# EAGLE library part ES_DAISY_SEED_REV2 (library Electrosmith-Boards)
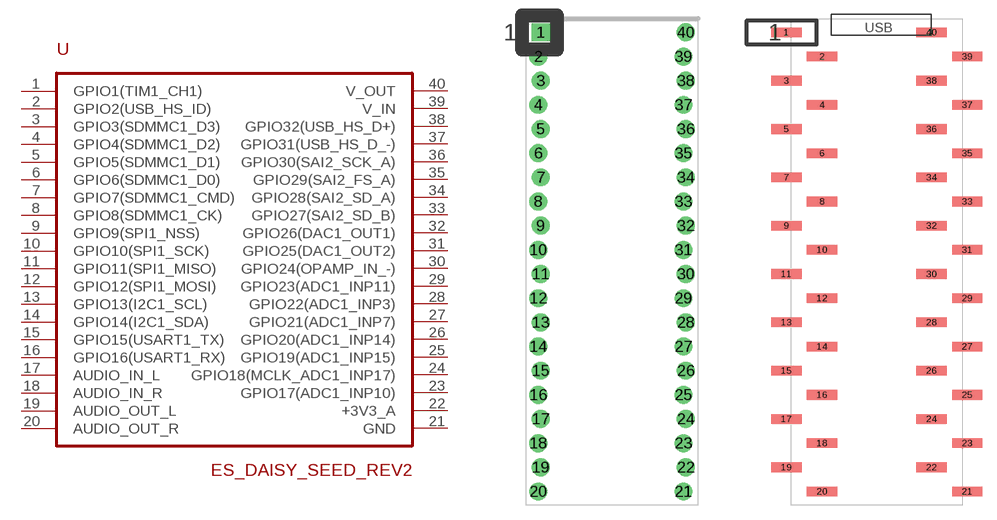
[diagram p18: symbol with the pads of ES_DAISY_SEED; footprints ES_DAISY_SEED, ES_DAISY_SEED_SMT]

Designator prefix U

## ES_DAISY_SEED_REV2  [ES_DAISY_SEED]
1  GPIO1(TIM1_CH1)
2  GPIO2(USB_HS_ID)
3  GPIO3(SDMMC1_D3)
4  GPIO4(SDMMC1_D2)
5  GPIO5(SDMMC1_D1)
6  GPIO6(SDMMC1_D0)
7  GPIO7(SDMMC1_CMD)
8  GPIO8(SDMMC1_CK)
9  GPIO9(SPI1_NSS)
10  GPIO10(SPI1_SCK)
11  GPIO11(SPI1_MISO)
12  GPIO12(SPI1_MOSI)
13  GPIO13(I2C1_SCL)
14  GPIO14(I2C1_SDA)
15  GPIO15(USART1_TX)
16  GPIO16(USART1_RX)
17  AUDIO_IN_L
18  AUDIO_IN_R
19  AUDIO_OUT_L
20  AUDIO_OUT_R
21  GND
22  +3V3_A
23  GPIO17(ADC1_INP10)
24  GPIO18(MCLK_ADC1_INP17)
25  GPIO19(ADC1_INP15)
26  GPIO20(ADC1_INP14)
27  GPIO21(ADC1_INP7)
28  GPIO22(ADC1_INP3)
29  GPIO23(ADC1_INP11)
30  GPIO24(OPAMP_IN_-)
31  GPIO25(DAC1_OUT2)
32  GPIO26(DAC1_OUT1)
33  GPIO27(SAI2_SD_B)
34  GPIO28(SAI2_SD_A)
35  GPIO29(SAI2_FS_A)
36  GPIO30(SAI2_SCK_A)
37  GPIO31(USB_HS_D_-)
38  GPIO32(USB_HS_D+)
39  V_IN
40  V_OUT

## ES_DAISY_SEED_REV2_SMT  [ES_DAISY_SEED_SMT]
Pads as for ES_DAISY_SEED

## ES_DAISY_SEED_REV2_COMBO  [ES_DAISY_SEED_COMBO]
1  GPIO1(TIM1_CH1)
2  GPIO2(USB_HS_ID)
3  GPIO3(SDMMC1_D3)
4  GPIO4(SDMMC1_D2)
5  GPIO5(SDMMC1_D1)
6  GPIO6(SDMMC1_D0)
7  GPIO7(SDMMC1_CMD)
8  GPIO8(SDMMC1_CK)
9  GPIO9(SPI1_NSS)
10  GPIO10(SPI1_SCK)
11  GPIO11(SPI1_MISO)
12  GPIO12(SPI1_MOSI)
13  GPIO13(I2C1_SCL)
14  GPIO14(I2C1_SDA)
15  GPIO15(USART1_TX)
16  GPIO16(USART1_RX)
17  AUDIO_IN_L
18  AUDIO_IN_R
19  AUDIO_OUT_L
20  AUDIO_OUT_R
21  GND
22  +3V3_A
23  GPIO17(ADC1_INP10)
24  GPIO18(MCLK_ADC1_INP17)
25  GPIO19(ADC1_INP15)
26  GPIO20(ADC1_INP14)
27  GPIO21(ADC1_INP7)
28  GPIO22(ADC1_INP3)
29  GPIO23(ADC1_INP11)
30  GPIO24(OPAMP_IN_-)
31  GPIO25(DAC1_OUT2)
32  GPIO26(DAC1_OUT1)
33  GPIO27(SAI2_SD_B)
34  GPIO28(SAI2_SD_A)
35  GPIO29(SAI2_FS_A)
36  GPIO30(SAI2_SCK_A)
37  GPIO31(USB_HS_D_-)
38  GPIO32(USB_HS_D+)
39  V_IN
40  V_OUT
41  GPIO1(TIM1_CH1)
42  GPIO2(USB_HS_ID)
43  GPIO3(SDMMC1_D3)
44  GPIO4(SDMMC1_D2)
45  GPIO5(SDMMC1_D1)
46  GPIO6(SDMMC1_D0)
47  GPIO7(SDMMC1_CMD)
48  GPIO8(SDMMC1_CK)
49  GPIO9(SPI1_NSS)
50  GPIO10(SPI1_SCK)
51  GPIO11(SPI1_MISO)
52  GPIO12(SPI1_MOSI)
53  GPIO13(I2C1_SCL)
54  GPIO14(I2C1_SDA)
55  GPIO15(USART1_TX)
56  GPIO16(USART1_RX)
57  AUDIO_IN_L
58  AUDIO_IN_R
59  AUDIO_OUT_L
60  AUDIO_OUT_R
61  GND
62  +3V3_A
63  GPIO17(ADC1_INP10)
64  GPIO18(MCLK_ADC1_INP17)
65  GPIO19(ADC1_INP15)
66  GPIO20(ADC1_INP14)
67  GPIO21(ADC1_INP7)
68  GPIO22(ADC1_INP3)
69  GPIO23(ADC1_INP11)
70  GPIO24(OPAMP_IN_-)
71  GPIO25(DAC1_OUT2)
72  GPIO26(DAC1_OUT1)
73  GPIO27(SAI2_SD_B)
74  GPIO28(SAI2_SD_A)
75  GPIO29(SAI2_FS_A)
76  GPIO30(SAI2_SCK_A)
77  GPIO31(USB_HS_D_-)
78  GPIO32(USB_HS_D+)
79  V_IN
80  V_OUT

## ES_DAISY_SEED_REV2_DOUBLE  [ES_DAISY_SEED_DOUBLE]
1  GPIO1(TIM1_CH1)
2  GPIO2(USB_HS_ID)
3  GPIO3(SDMMC1_D3)
4  GPIO4(SDMMC1_D2)
5  GPIO5(SDMMC1_D1)
6  GPIO6(SDMMC1_D0)
7  GPIO7(SDMMC1_CMD)
8  GPIO8(SDMMC1_CK)
9  GPIO9(SPI1_NSS)
10  GPIO10(SPI1_SCK)
11  GPIO11(SPI1_MISO)
12  GPIO12(SPI1_MOSI)
13  GPIO13(I2C1_SCL)
14  GPIO14(I2C1_SDA)
15  GPIO15(USART1_TX)
16  GPIO16(USART1_RX)
17  AUDIO_IN_L
18  AUDIO_IN_R
19  AUDIO_OUT_L
20  AUDIO_OUT_R
21  GND
22  +3V3_A
23  GPIO17(ADC1_INP10)
24  GPIO18(MCLK_ADC1_INP17)
25  GPIO19(ADC1_INP15)
26  GPIO20(ADC1_INP14)
27  GPIO21(ADC1_INP7)
28  GPIO22(ADC1_INP3)
29  GPIO23(ADC1_INP11)
30  GPIO24(OPAMP_IN_-)
31  GPIO25(DAC1_OUT2)
32  GPIO26(DAC1_OUT1)
33  GPIO27(SAI2_SD_B)
34  GPIO28(SAI2_SD_A)
35  GPIO29(SAI2_FS_A)
36  GPIO30(SAI2_SCK_A)
37  GPIO31(USB_HS_D_-)
38  GPIO32(USB_HS_D+)
39  V_IN
40  V_OUT
B1  GPIO1(TIM1_CH1)
B2  GPIO2(USB_HS_ID)
B3  GPIO3(SDMMC1_D3)
B4  GPIO4(SDMMC1_D2)
B5  GPIO5(SDMMC1_D1)
B6  GPIO6(SDMMC1_D0)
B7  GPIO7(SDMMC1_CMD)
B8  GPIO8(SDMMC1_CK)
B9  GPIO9(SPI1_NSS)
B10  GPIO10(SPI1_SCK)
B11  GPIO11(SPI1_MISO)
B12  GPIO12(SPI1_MOSI)
B13  GPIO13(I2C1_SCL)
B14  GPIO14(I2C1_SDA)
B15  GPIO15(USART1_TX)
B16  GPIO16(USART1_RX)
B17  AUDIO_IN_L
B18  AUDIO_IN_R
B19  AUDIO_OUT_L
B20  AUDIO_OUT_R
B21  GND
B22  +3V3_A
B23  GPIO17(ADC1_INP10)
B24  GPIO18(MCLK_ADC1_INP17)
B25  GPIO19(ADC1_INP15)
B26  GPIO20(ADC1_INP14)
B27  GPIO21(ADC1_INP7)
B28  GPIO22(ADC1_INP3)
B29  GPIO23(ADC1_INP11)
B30  GPIO24(OPAMP_IN_-)
B31  GPIO25(DAC1_OUT2)
B32  GPIO26(DAC1_OUT1)
B33  GPIO27(SAI2_SD_B)
B34  GPIO28(SAI2_SD_A)
B35  GPIO29(SAI2_FS_A)
B36  GPIO30(SAI2_SCK_A)
B37  GPIO31(USB_HS_D_-)
B38  GPIO32(USB_HS_D+)
B39  V_IN
B40  V_OUT

## Footprint ES_DAISY_SEED (pad centres in mm)
drill 1.016 pad 1.88 square: 1 -7.493,24.13
drill 1.016 pad 1.88: 2 -7.747,21.59; 3 -7.493,19.05; 4 -7.747,16.51; 5 -7.493,13.97; 6 -7.747,11.43; 7 -7.493,8.89; 8 -7.747,6.35; 9 -7.493,3.81; 10 -7.747,1.27; 11 -7.493,-1.27; 12 -7.747,-3.81; 13 -7.493,-6.35; 14 -7.747,-8.89; 15 -7.493,-11.43; 16 -7.747,-13.97; 17 -7.493,-16.51; 18 -7.747,-19.05; 19 -7.493,-21.59; 20 -7.747,-24.13; 21 7.493,-24.13; 22 7.747,-21.59; 23 7.493,-19.05; 24 7.747,-16.51; 25 7.493,-13.97; 26 7.747,-11.43; 27 7.493,-8.89; 28 7.747,-6.35; 29 7.493,-3.81; 30 7.747,-1.27; 31 7.493,1.27; 32 7.747,3.81; 33 7.493,6.35; 34 7.747,8.89; 35 7.493,11.43; 36 7.747,13.97; 37 7.493,16.51; 38 7.747,19.05; 39 7.493,21.59; 40 7.747,24.13

## Footprint ES_DAISY_SEED_SMT (pad centres in mm)
smd 3.175 x 1.016: 1 -9.493,24.13; 2 -5.747,21.59; 3 -9.493,19.05; 4 -5.747,16.51; 5 -9.493,13.97; 6 -5.747,11.43; 7 -9.493,8.89; 8 -5.747,6.35; 9 -9.493,3.81; 10 -5.747,1.27; 11 -9.493,-1.27; 12 -5.747,-3.81; 13 -9.493,-6.35; 14 -5.747,-8.89; 15 -9.493,-11.43; 16 -5.747,-13.97; 17 -9.493,-16.51; 18 -5.747,-19.05; 19 -9.493,-21.59; 20 -5.747,-24.13; 21 9.493,-24.13; 22 5.747,-21.59; 23 9.493,-19.05; 24 5.747,-16.51; 25 9.493,-13.97; 26 5.747,-11.43; 27 9.493,-8.89; 28 5.747,-6.35; 29 9.493,-3.81; 30 5.747,-1.27; 31 9.493,1.27; 32 5.747,3.81; 33 9.493,6.35; 34 5.747,8.89; 35 9.493,11.43; 36 5.747,13.97; 37 9.493,16.51; 38 5.747,19.05; 39 9.493,21.59; 40 5.747,24.13

## Footprint ES_DAISY_SEED_COMBO (pad centres in mm)
smd 3.175 x 1.016: 1 -9.493,24.13; 2 -5.747,21.59; 3 -9.493,19.05; 4 -5.747,16.51; 5 -9.493,13.97; 6 -5.747,11.43; 7 -9.493,8.89; 8 -5.747,6.35; 9 -9.493,3.81; 10 -5.747,1.27; 11 -9.493,-1.27; 12 -5.747,-3.81; 13 -9.493,-6.35; 14 -5.747,-8.89; 15 -9.493,-11.43; 16 -5.747,-13.97; 17 -9.493,-16.51; 18 -5.747,-19.05; 19 -9.493,-21.59; 20 -5.747,-24.13; 21 9.493,-24.13; 22 5.747,-21.59; 23 9.493,-19.05; 24 5.747,-16.51; 25 9.493,-13.97; 26 5.747,-11.43; 27 9.493,-8.89; 28 5.747,-6.35; 29 9.493,-3.81; 30 5.747,-1.27; 31 9.493,1.27; 32 5.747,3.81; 33 9.493,6.35; 34 5.747,8.89; 35 9.493,11.43; 36 5.747,13.97; 37 9.493,16.51; 38 5.747,19.05; 39 9.493,21.59; 40 5.747,24.13
drill 1.016 pad 1.88 square: 41 -7.493,24.13
drill 1.016 pad 1.88: 42 -7.747,21.59; 43 -7.493,19.05; 44 -7.747,16.51; 45 -7.493,13.97; 46 -7.747,11.43; 47 -7.493,8.89; 48 -7.747,6.35; 49 -7.493,3.81; 50 -7.747,1.27; 51 -7.493,-1.27; 52 -7.747,-3.81; 53 -7.493,-6.35; 54 -7.747,-8.89; 55 -7.493,-11.43; 56 -7.747,-13.97; 57 -7.493,-16.51; 58 -7.747,-19.05; 59 -7.493,-21.59; 60 -7.747,-24.13; 61 7.493,-24.13; 62 7.747,-21.59; 63 7.493,-19.05; 64 7.747,-16.51; 65 7.493,-13.97; 66 7.747,-11.43; 67 7.493,-8.89; 68 7.747,-6.35; 69 7.493,-3.81; 70 7.747,-1.27; 71 7.493,1.27; 72 7.747,3.81; 73 7.493,6.35; 74 7.747,8.89; 75 7.493,11.43; 76 7.747,13.97; 77 7.493,16.51; 78 7.747,19.05; 79 7.493,21.59; 80 7.747,24.13

## Footprint ES_DAISY_SEED_DOUBLE (pad centres in mm)
drill 1.016 pad 1.88 square: 1 -7.493,24.13; B1 -10.033,24.13
drill 1.016 pad 1.88: 2 -7.747,21.59; 3 -7.493,19.05; 4 -7.747,16.51; 5 -7.493,13.97; 6 -7.747,11.43; 7 -7.493,8.89; 8 -7.747,6.35; 9 -7.493,3.81; 10 -7.747,1.27; 11 -7.493,-1.27; 12 -7.747,-3.81; 13 -7.493,-6.35; 14 -7.747,-8.89; 15 -7.493,-11.43; 16 -7.747,-13.97; 17 -7.493,-16.51; 18 -7.747,-19.05; 19 -7.493,-21.59; 20 -7.747,-24.13; 21 7.493,-24.13; 22 7.747,-21.59; 23 7.493,-19.05; 24 7.747,-16.51; 25 7.493,-13.97; 26 7.747,-11.43; 27 7.493,-8.89; 28 7.747,-6.35; 29 7.493,-3.81; 30 7.747,-1.27; 31 7.493,1.27; 32 7.747,3.81; 33 7.493,6.35; 34 7.747,8.89; 35 7.493,11.43; 36 7.747,13.97; 37 7.493,16.51; 38 7.747,19.05; 39 7.493,21.59; 40 7.747,24.13; B2 -10.287,21.59; B3 -10.033,19.05; B4 -10.287,16.51; B5 -10.033,13.97; B6 -10.287,11.43; B7 -10.033,8.89; B8 -10.287,6.35; B9 -10.033,3.81; B10 -10.287,1.27; B11 -10.033,-1.27; B12 -10.287,-3.81; B13 -10.033,-6.35; B14 -10.287,-8.89; B15 -10.033,-11.43; B16 -10.287,-13.97; B17 -10.033,-16.51; B18 -10.287,-19.05; B19 -10.033,-21.59; B20 -10.287,-24.13; B21 10.033,-24.13; B22 10.287,-21.59; B23 10.033,-19.05; B24 10.287,-16.51; B25 10.033,-13.97; B26 10.287,-11.43; B27 10.033,-8.89; B28 10.287,-6.35; B29 10.033,-3.81; B30 10.287,-1.27; B31 10.033,1.27; B32 10.287,3.81; B33 10.033,6.35; B34 10.287,8.89; B35 10.033,11.43; B36 10.287,13.97; B37 10.033,16.51; B38 10.287,19.05; B39 10.033,21.59; B40 10.287,24.13